# Altium schematic symbol library Microcontrollers.SchLib: 1 symbol
Pins are listed as number, name and electrical type; pins without a type are passive.

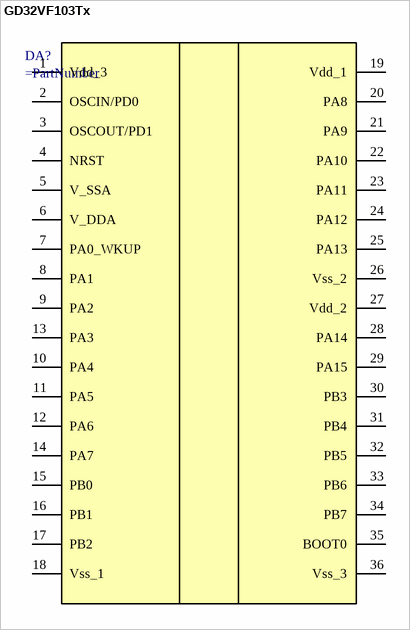
[diagram p0: symbol GD32VF103Tx]

## GD32VF103Tx
designator DA?
footprint QFN50P600X600X90_HS-37N (QFN, 36-Leads, Body 6,00x6,00mm, Pitch 0,50mm, Thermal Pad 3,90x3,90mm, IPC Medium Density)
pins: 1 Vdd_3, 2 OSCIN/PD0, 3 OSCOUT/PD1, 4 NRST, 5 V_SSA, 6 V_DDA, 7 PA0_WKUP, 8 PA1, 9 PA2, 10 PA4, 11 PA5, 12 PA6, 13 PA3, 14 PA7, 15 PB0, 16 PB1, 17 PB2, 18 Vss_1, 19 Vdd_1, 20 PA8, 21 PA9, 22 PA10, 23 PA11, 24 PA12, 25 PA13, 26 Vss_2, 27 Vdd_2, 28 PA14, 29 PA15, 30 PB3, 31 PB4, 32 PB5, 33 PB6, 34 PB7, 35 BOOT0, 36 Vss_3